# Altium schematic symbol library 5V linear reg.SchLib: 1 symbol
Pins are listed as number, name and electrical type; pins without a type are passive.

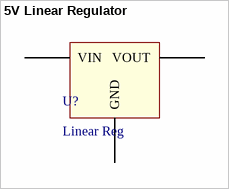
[diagram p0: symbol 5V Linear Regulator]

## 5V Linear Regulator
designator U?, comment Linear Reg
5V Linear Regulator; Manufacturer Part No.: LD1117S50CTR; Output Current: 800mA; Digi-Key Part No.: 497-1243-1-ND
footprint 4-Pin SOT223 (SOT223, 4-Leads, Body 6.50x7.00mm (avg), Pitch 2.30mm, IPC Medium Density)
pins: 1 GND, 2 VOUT, 3 VIN